# Altium footprint library SOD-80.PcbLib: 1 footprints
Each footprint in its own frame and in the unit in brackets; x right, y up, seen from the top. Pads: shape width x height; smd on the part's side, far side on the other; paste and mask are expansions set on the pad; w line width, h text height; cw(c..) or ccw(c..) is an arc to the next point about the centre after c.
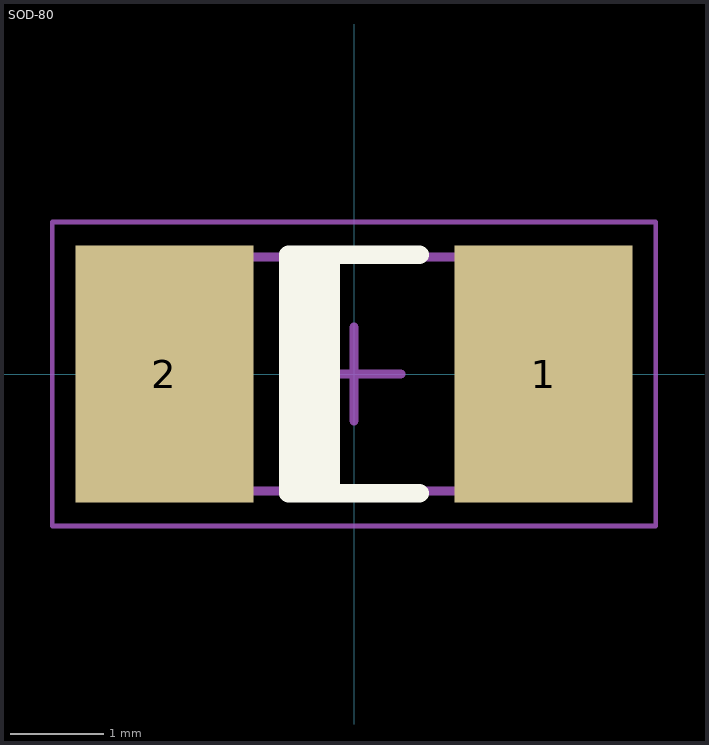
[diagram p0: the footprint, top view; thin cyan lines are the x and y axes]

## SOD-80 [mm]
pads (2):
  rect 1.9x2.75 smd: 1(2.025,0) 2(-2.025,0)
Top Overlay:
  rectangle: -0.7,-1.275 -0.15,1.275
  lines w0.2: 0.7,-1.275 -0.7,-1.275 -0.7,1.275 0.7,1.275
Mechanical 13:
  lines w0.1: -2.5,-1.25 -2.5,1.25 2.5,1.25 2.5,-1.25 -2.5,-1.25
Mechanical 15:
  lines w0.05: -3.225,-1.625 -3.225,1.625 3.225,1.625 3.225,-1.625 -3.225,-1.625
  lines w0.1: -0.5,0 0.5,0 ; 0,-0.5 0,0.5
3D body: height 2.49, standoff 0, extent -2.5,-1.25 -1.25,1.245
3D body: height 2.48, standoff 0.04, extent -0.65,-1.221 -0.05,1.216
3D body: height 2.48, standoff 0.04, extent -1.25,-1.22 1.25,1.215
3D body: height 2.49, standoff 0, extent 1.25,-1.25 2.5,1.245